# Altium footprint library WANGYU92100PcbLib.PcbLib: 392 footprints (part 9 of 25)
Each footprint in its own frame and in the unit in brackets; x right, y up, seen from the top. Pads: shape width x height; smd on the part's side, far side on the other; paste and mask are expansions set on the pad; w line width, h text height; cw(c..) or ccw(c..) is an arc to the next point about the centre after c.
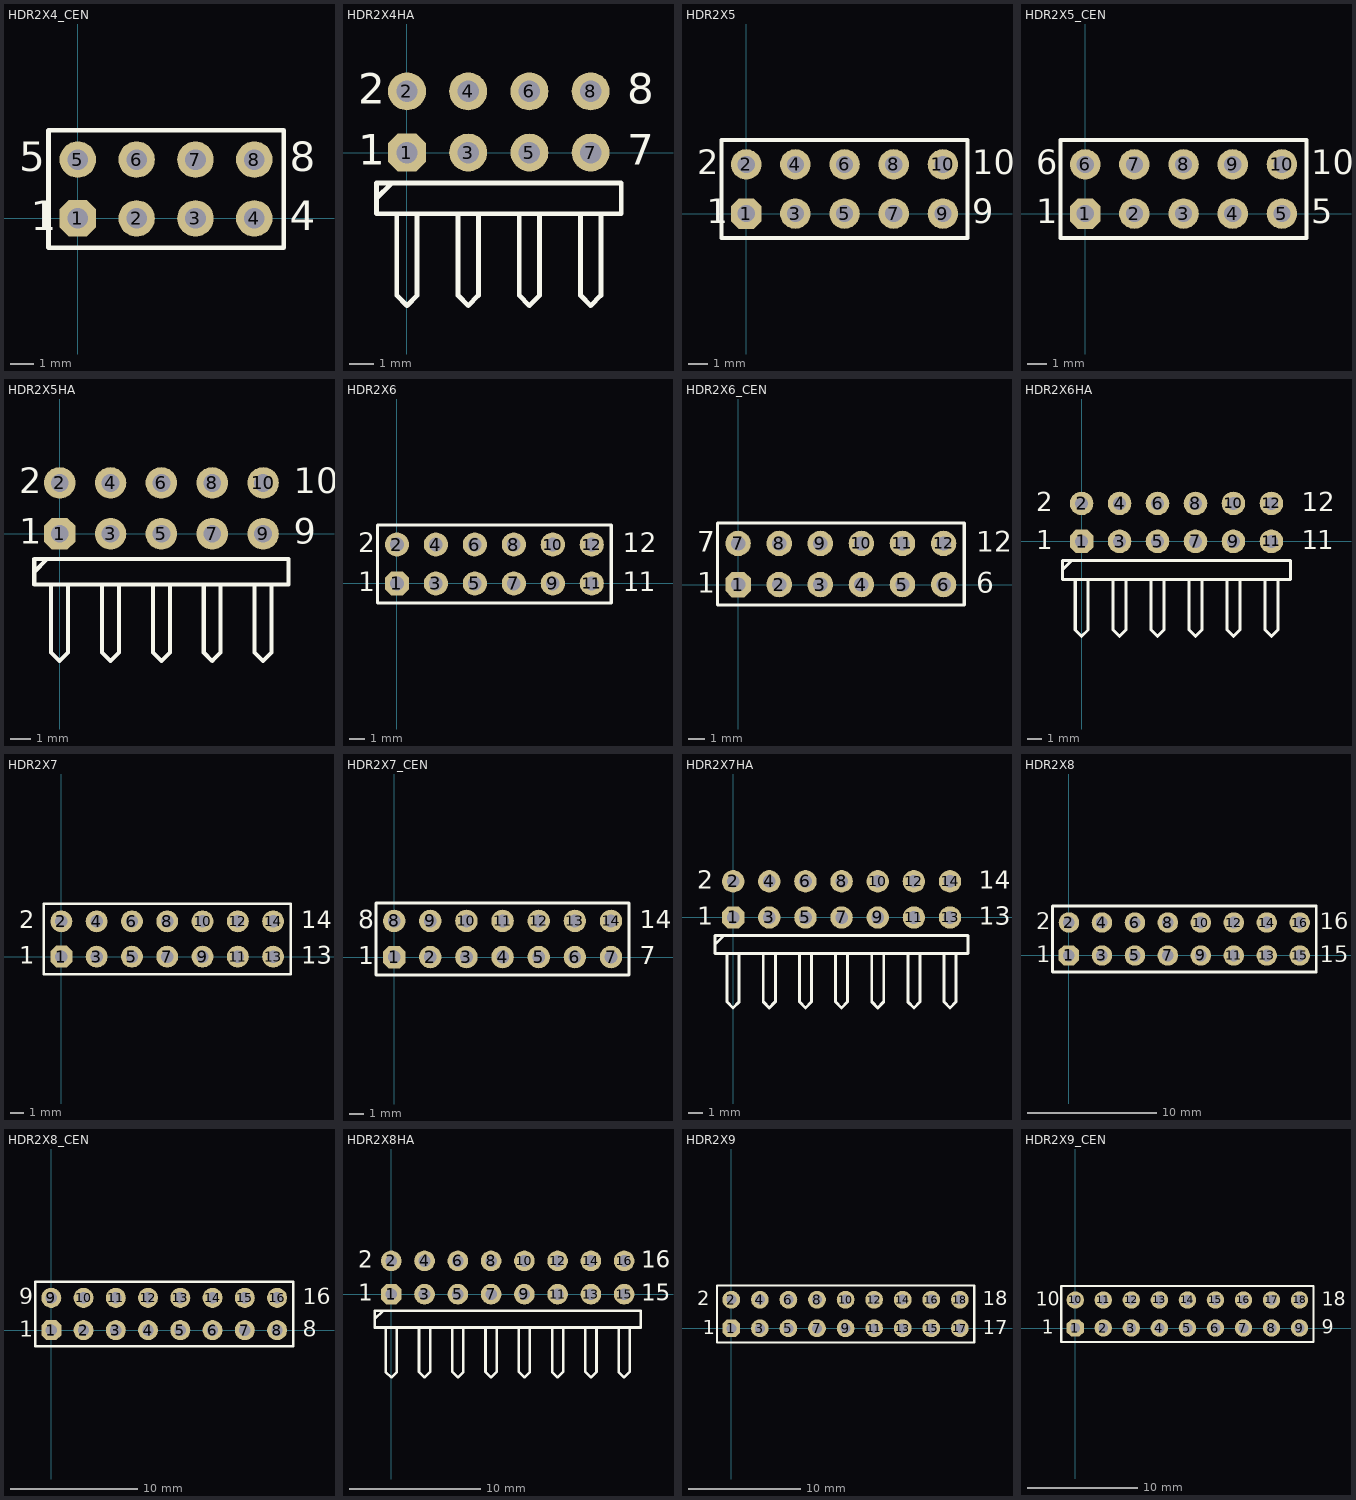
[diagram p8: the footprints below, top view; thin cyan lines are the x and y axes]

## HDR2X4_CEN [mil]
pads (8):
  oct 62x62 hole 35: 1(0,0)
  round 62 hole 35: 2(100,0) 3(200,0) 4(300,0) 5(0,100) 6(100,100) 7(200,100) 8(300,100)
Top Overlay:
  lines w8: -50,-50 350,-50 350,150 -50,150 -50,-50
  text "5" at -100,80 h50
  text "1" at -80,-20 h50
  text "4" at 360,-20 h50
  text "8" at 360,80 h50

## HDR2X4HA [mil]
pads (8):
  oct 62x62 hole 35: 1(0,0)
  round 62 hole 35: 2(0,100) 3(100,0) 4(100,100) 5(200,0) 6(200,100) 7(300,0) 8(300,100)
Top Overlay:
  lines w8: -50,-75 -25,-50 ; -16.67,-100 -16.67,-233.33 0,-250 16.67,-233.33 16.67,-100 ; 83.33,-100 83.33,-233.33 100,-250 116.67,-233.33 116.67,-100 ; 183.33,-100 183.33,-233.33 200,-250 216.67,-233.33 216.67,-100 ; 283.33,-100 283.33,-233.33 300,-250 316.67,-233.33 316.67,-100 ; -50,-100 -50,-50 350,-50 350,-100 -50,-100
  text "8" at 360,80 h50
  text "7" at 360,-20 h50
  text "1" at -80,-20 h50
  text "2" at -80,80 h50

## HDR2X5 [mil]
pads (10):
  oct 62x62 hole 35: 1(0,0)
  round 62 hole 35: 2(0,100) 3(100,0) 4(100,100) 5(200,0) 6(200,100) 7(300,0) 8(300,100) 9(400,0) 10(400,100)
Top Overlay:
  lines w8: -50,-50 -50,150 450,150 450,-50 -50,-50
  text "2" at -100,80 h50
  text "1" at -80,-20 h50
  text "9" at 460,-20 h50
  text "10" at 460,80 h50

## HDR2X5_CEN [mil]
pads (10):
  oct 62x62 hole 35: 1(0,0)
  round 62 hole 35: 2(100,0) 3(200,0) 4(300,0) 5(400,0) 6(0,100) 7(100,100) 8(200,100) 9(300,100) 10(400,100)
Top Overlay:
  lines w8: -50,-50 -50,150 450,150 450,-50 -50,-50
  text "6" at -100,80 h50
  text "10" at 460,80 h50
  text "5" at 460,-20 h50
  text "1" at -100,-20 h50

## HDR2X5HA [mil]
pads (10):
  oct 62x62 hole 35: 1(0,0)
  round 62 hole 35: 2(0,100) 3(100,0) 4(100,100) 5(200,0) 6(200,100) 7(300,0) 8(300,100) 9(400,0) 10(400,100)
Top Overlay:
  lines w8: -50,-75 -25,-50 ; -16.67,-100 -16.67,-233.33 0,-250 16.67,-233.33 16.67,-100 ; 83.33,-100 83.33,-233.33 100,-250 116.67,-233.33 116.67,-100 ; 183.33,-100 183.33,-233.33 200,-250 216.67,-233.33 216.67,-100 ; 283.33,-100 283.33,-233.33 300,-250 316.67,-233.33 316.67,-100 ; 383.33,-100 383.33,-233.33 400,-250 416.67,-233.33 416.67,-100 ; -50,-100 450,-100 450,-50 -50,-50 -50,-100
  text "2" at -80,80 h50
  text "1" at -80,-20 h50
  text "9" at 460,-20 h50
  text "10" at 460,80 h50

## HDR2X6 [mil]
pads (12):
  oct 62x62 hole 35: 1(0,0)
  round 62 hole 35: 2(0,100) 3(100,0) 4(100,100) 5(200,0) 6(200,100) 7(300,0) 8(300,100) 9(400,0) 10(400,100) 11(500,0) 12(500,100)
Top Overlay:
  lines w8: -50,-50 -50,150 550,150 550,-50 -50,-50
  text "2" at -100,80 h50
  text "1" at -100,-20 h50
  text "1" at 580,-20 h50
  text "1" at 620,-20 h50
  text "12" at 580,80 h50

## HDR2X6_CEN [mil]
pads (12):
  oct 62x62 hole 35: 1(0,0)
  round 62 hole 35: 2(100,0) 3(200,0) 4(300,0) 5(400,0) 6(500,0) 7(0,100) 8(100,100) 9(200,100) 10(300,100) 11(400,100) 12(500,100)
Top Overlay:
  lines w8: -50,-50 550,-50 550,150 -50,150 -50,-50
  text "12" at 580,80 h50
  text "6" at 580,-20 h50
  text "1" at -100,-20 h50
  text "7" at -100,80 h50

## HDR2X6HA [mil]
pads (12):
  oct 62x62 hole 35: 1(0,0)
  round 62 hole 35: 2(0,100) 3(100,0) 4(100,100) 5(200,0) 6(200,100) 7(300,0) 8(300,100) 9(400,0) 10(400,100) 11(500,0) 12(500,100)
Top Overlay:
  lines w8: -50,-75 -25,-50 ; -16.67,-100 -16.67,-233.33 0,-250 16.67,-233.33 16.67,-100 ; 83.33,-100 83.33,-233.33 100,-250 116.67,-233.33 116.67,-100 ; 183.33,-100 183.33,-233.33 200,-250 216.67,-233.33 216.67,-100 ; 283.33,-100 283.33,-233.33 300,-250 316.67,-233.33 316.67,-100 ; 383.33,-100 383.33,-233.33 400,-250 416.67,-233.33 416.67,-100 ; 483.33,-100 483.33,-233.33 500,-250 516.67,-233.33 516.67,-100 ; -50,-100 -50,-50 550,-50 550,-100 -50,-100
  text "12" at 580,80 h50
  text "1" at 620,-20 h50
  text "1" at 580,-20 h50
  text "1" at -120,-20 h50
  text "2" at -120,80 h50

## HDR2X7 [mil]
pads (14):
  oct 62x62 hole 35: 1(0,0)
  round 62 hole 35: 2(0,100) 3(100,0) 4(100,100) 5(200,0) 6(200,100) 7(300,0) 8(300,100) 9(400,0) 10(400,100) 11(500,0) 12(500,100) 13(600,0) 14(600,100)
Top Overlay:
  lines w8: -50,-50 -50,150 650,150 650,-50 -50,-50
  text "2" at -120,80 h50
  text "1" at -120,-20 h50
  text "14" at 680,80 h50
  text "13" at 680,-20 h50

## HDR2X7_CEN [mil]
pads (14):
  oct 62x62 hole 35: 1(0,0)
  round 62 hole 35: 2(100,0) 3(200,0) 4(300,0) 5(400,0) 6(500,0) 7(600,0) 8(0,100) 9(100,100) 10(200,100) 11(300,100) 12(400,100) 13(500,100) 14(600,100)
Top Overlay:
  lines w8: -50,-50 -50,150 650,150 650,-50 -50,-50
  text "14" at 680,80 h50
  text "7" at 680,-20 h50
  text "1" at -100,-20 h50
  text "8" at -100,80 h50

## HDR2X7HA [mil]
pads (14):
  oct 62x62 hole 35: 1(0,0)
  round 62 hole 35: 2(0,100) 3(100,0) 4(100,100) 5(200,0) 6(200,100) 7(300,0) 8(300,100) 9(400,0) 10(400,100) 11(500,0) 12(500,100) 13(600,0) 14(600,100)
Top Overlay:
  lines w8: -50,-75 -25,-50 ; -16.67,-100 -16.67,-233.33 0,-250 16.67,-233.33 16.67,-100 ; 83.33,-100 83.33,-233.33 100,-250 116.67,-233.33 116.67,-100 ; 183.33,-100 183.33,-233.33 200,-250 216.67,-233.33 216.67,-100 ; 283.33,-100 283.33,-233.33 300,-250 316.67,-233.33 316.67,-100 ; 383.33,-100 383.33,-233.33 400,-250 416.67,-233.33 416.67,-100 ; 483.33,-100 483.33,-233.33 500,-250 516.67,-233.33 516.67,-100 ; 583.33,-100 583.33,-233.33 600,-250 616.67,-233.33 616.67,-100 ; -50,-100 -50,-50 650,-50 650,-100 -50,-100
  text "2" at -100,80 h50
  text "1" at -100,-20 h50
  text "13" at 680,-20 h50
  text "14" at 680,80 h50

## HDR2X8 [mil]
pads (16):
  oct 62x62 hole 35: 1(0,0)
  round 62 hole 35: 2(0,100) 3(100,0) 4(100,100) 5(200,0) 6(200,100) 7(300,0) 8(300,100) 9(400,0) 10(400,100) 11(500,0) 12(500,100) 13(600,0) 14(600,100) 15(700,0) 16(700,100)
Top Overlay:
  lines w8: -50,-50 750,-50 750,150 -50,150 -50,-50
  text "16" at 760,80 h50
  text "15" at 760,-20 h50
  text "1" at -100,-20 h50
  text "2" at -100,80 h50

## HDR2X8_CEN [mil]
pads (16):
  oct 62x62 hole 35: 1(0,0)
  round 62 hole 35: 2(100,0) 3(200,0) 4(300,0) 5(400,0) 6(500,0) 7(600,0) 8(700,0) 9(0,100) 10(100,100) 11(200,100) 12(300,100) 13(400,100) 14(500,100) 15(600,100) 16(700,100)
Top Overlay:
  lines w8: -50,-50 750,-50 750,150 -50,150 -50,-50
  text "16" at 780,80 h50
  text "8" at 780,-20 h50
  text "1" at -100,-20 h50
  text "9" at -100,80 h50

## HDR2X8HA [mil]
pads (16):
  oct 62x62 hole 35: 1(0,0)
  round 62 hole 35: 2(0,100) 3(100,0) 4(100,100) 5(200,0) 6(200,100) 7(300,0) 8(300,100) 9(400,0) 10(400,100) 11(500,0) 12(500,100) 13(600,0) 14(600,100) 15(700,0) 16(700,100)
Top Overlay:
  lines w8: -50,-75 -25,-50 ; -16.67,-100 -16.67,-233.33 0,-250 16.67,-233.33 16.67,-100 ; 83.33,-100 83.33,-233.33 100,-250 116.67,-233.33 116.67,-100 ; 183.33,-100 183.33,-233.33 200,-250 216.67,-233.33 216.67,-100 ; 283.33,-100 283.33,-233.33 300,-250 316.67,-233.33 316.67,-100 ; 383.33,-100 383.33,-233.33 400,-250 416.67,-233.33 416.67,-100 ; 483.33,-100 483.33,-233.33 500,-250 516.67,-233.33 516.67,-100 ; 583.33,-100 583.33,-233.33 600,-250 616.67,-233.33 616.67,-100 ; 683.33,-100 683.33,-233.33 700,-250 716.67,-233.33 716.67,-100 ; -50,-100 750,-100 750,-50 -50,-50 -50,-100
  text "16" at 751.65,80 h50
  text "15" at 750.74,-20 h50
  text "1" at -100,-20 h50
  text "2" at -100,80 h50

## HDR2X9 [mil]
pads (18):
  oct 62x62 hole 35: 1(0,0)
  round 62 hole 35: 2(0,100) 3(100,0) 4(100,100) 5(200,0) 6(200,100) 7(300,0) 8(300,100) 9(400,0) 10(400,100) 11(500,0) 12(500,100) 13(600,0) 14(600,100) 15(700,0) 16(700,100) 17(800,0) 18(800,100)
Top Overlay:
  lines w8: -50,-50 -50,150 850,150 850,-50 -50,-50
  text "2" at -120,80 h50
  text "1" at -100,-20 h50
  text "17" at 880,-20 h50
  text "18" at 880,80 h50

## HDR2X9_CEN [mil]
pads (18):
  oct 62x62 hole 35: 1(0,0)
  round 62 hole 35: 2(100,0) 3(200,0) 4(300,0) 5(400,0) 6(500,0) 7(600,0) 8(700,0) 9(800,0) 10(0,100) 11(100,100) 12(200,100) 13(300,100) 14(400,100) 15(500,100) 16(600,100) 17(700,100) 18(800,100)
Top Overlay:
  lines w8: -50,-50 850,-50 850,150 -50,150 -50,-50
  text "18" at 880,80 h50
  text "9" at 880,-20 h50
  text "1" at -120,-20 h50
  text "10" at -140,80 h50